# Altium footprint library Reg_DPAK−3.PcbLib: 1 footprints
Each footprint in its own frame and in the unit in brackets; x right, y up, seen from the top. Pads: shape width x height; smd on the part's side, far side on the other; paste and mask are expansions set on the pad; w line width, h text height; cw(c..) or ccw(c..) is an arc to the next point about the centre after c.
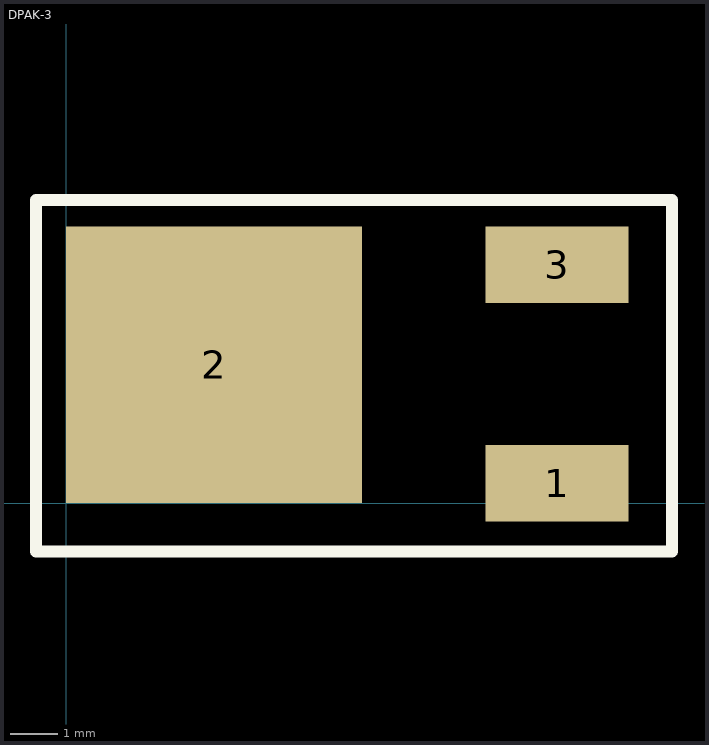
[diagram p0: the footprint, top view; thin cyan lines are the x and y axes]

## DPAK-3 [mil]
pads (3):
  rect 118x63 smd: 1(405,16.5) 3(405,196.5)
  rect 244x228 smd: 2(122,114)
Top Overlay:
  lines w10: -25,-40 -25,250 500,250 500,-40 -25,-40